# EAGLE library part 216700-0249 (library 216700-0249)
Board to Board & Mezzanine Connectors Board-to-Board Recept 0.35mm Pitch 0.60mm Mated Hght 1.90mm Mated Width 24 Ckts Source: Datasheet <https://www.molex.com/content/dam/molex/molex-dot-com/products/automated/en-us/salesdrawingpdf/216/216700/2167000249_sd.pdf>
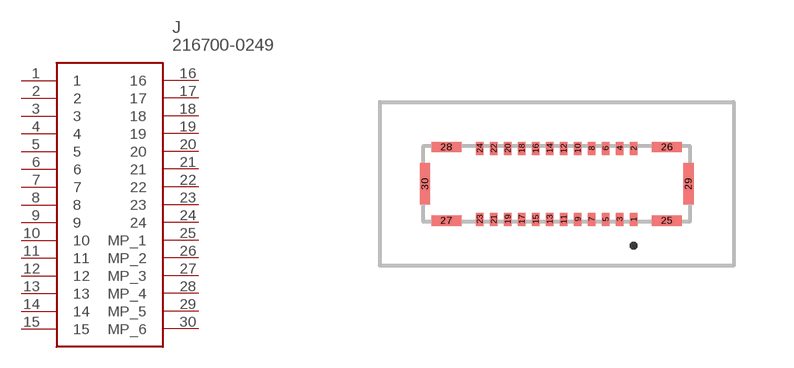
[diagram p0: symbol with the pads of 2167000249; footprint 2167000249]

Designator prefix J

## 216700-0249 (Description: Board to Board & Mezzanine Connectors Board-to-Board Recept 0.35mm Pitch 0.60mm Mated Hght 1.90mm Mated Width 24 Ckts; Height: 0.66mm; Manufacturer_Name: Molex; Manufacturer_Part_Number: 216700-0249)  [2167000249]
1  1
2  2
3  3
4  4
5  5
6  6
7  7
8  8
9  9
10  10
11  11
12  12
13  13
14  14
15  15
16  16
17  17
18  18
19  19
20  20
21  21
22  22
23  23
24  24
25  MP_1
26  MP_2
27  MP_3
28  MP_4
29  MP_5
30  MP_6

## Footprint 2167000249 (pad centres in mm)
216700-0249-2
smd 0.18 x 0.325: 1 1.925,-0.888; 2 1.925,0.887; 3 1.575,-0.888; 4 1.575,0.887; 5 1.225,-0.888; 6 1.225,0.887; 7 0.875,-0.888; 8 0.875,0.887; 9 0.525,-0.888; 10 0.525,0.887; 11 0.175,-0.888; 12 0.175,0.887; 13 -0.175,-0.888; 14 -0.175,0.887; 15 -0.525,-0.888; 16 -0.525,0.887; 17 -0.875,-0.888; 18 -0.875,0.887; 19 -1.225,-0.888; 20 -1.225,0.887; 21 -1.575,-0.888; 22 -1.575,0.887; 23 -1.925,-0.888; 24 -1.925,0.887
smd 0.75 x 0.26: 25 2.76,-0.92; 26 2.76,0.92; 27 -2.76,-0.92; 28 -2.76,0.92
smd 0.26 x 1.04: 29 3.295,0; 30 -3.295,0